# Altium schematic symbol library 陪测板.SCHLIB: 112 symbols
Pins are listed as number, name and electrical type; pins without a type are passive.

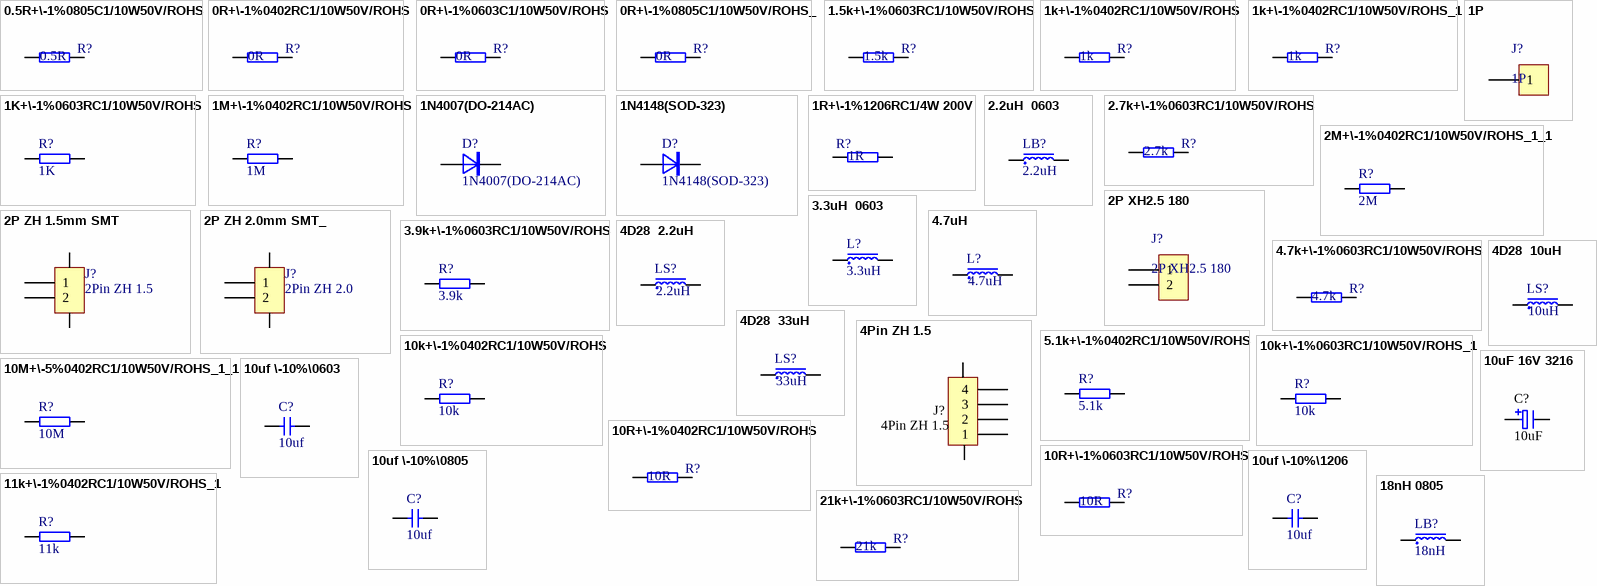
[diagram p0: symbols 0.5R+\-1%0805C1/10W50V/ROHS to 21k+\-1%0603RC1/10W50V/ROHS]

## 0.5R+\-1%0805C1/10W50V/ROHS
designator R?, comment 0.5R
0.5R+\-1%0805RC1/8W50V/ROHS; 物料编码: 38503111A; 器件名称: 贴片电阻; 器件价格: 0.0048
footprint R-0805
pins: 1, 2

## 0R+\-1%0402RC1/10W50V/ROHS
designator R?, comment 0R
0R+\-1%0402RC1/10W50V/ROHS; 物料编码: 38503111A; 器件名称: 贴片电阻; 器件价格: 0.0048
footprint R-0402
pins: 1, 2

## 0R+\-1%0603C1/10W50V/ROHS
designator R?, comment 0R
0R+\-1%0603RC1/10W50V/ROHS; 物料编码: 38503111A; 器件名称: 贴片电阻; 器件价格: 0.0048
footprint R-0603
pins: 1, 2

## 0R+\-1%0805C1/10W50V/ROHS_
designator R?, comment 0R
0R+\-1%0805RC1/8W50V/ROHS; 物料编码: 38503111A; 器件名称: 贴片电阻; 器件价格: 0.0048
footprint R-0805
pins: 1, 2

## 1.5k+\-1%0603RC1/10W50V/ROHS
designator R?, comment 1.5k
1.5k+\-1%0603RC1/10W50V/ROHS; 物料编码: 38503111A; 器件名称: 贴片电阻; 器件价格: 0.0048
footprint R-0603
pins: 1, 2

## 1k+\-1%0402RC1/10W50V/ROHS
designator R?, comment 1k
1k+\-1%0402RC1/10W50V/ROHS; 物料编码: 38503111A; 器件名称: 贴片电阻; 器件价格: 0.0048
footprint R-0402
pins: 1, 2

## 1k+\-1%0402RC1/10W50V/ROHS_1
designator R?, comment 1k
1k+\-1%0402RC1/10W50V/ROHS; 物料编码: 38503111A; 器件名称: 贴片电阻; 器件价格: 0.0048
footprint R-0402
pins: 1, 2

## 1K+\-1%0603RC1/10W50V/ROHS
designator R?, comment 1K
1K+\-1%0603RC1/10W50V/ROHS; 物料编码: 38503112A; 器件名称: 贴片电阻; 器件价格: 0.0048
footprint R-0603
pins: 1, 2

## 1M+\-1%0402RC1/10W50V/ROHS
designator R?, comment 1M
1M+\-1%0402RC1/10W50V/ROHS; 物料编码: 38503112A; 器件名称: 贴片电阻; 器件价格: 0.0048
footprint R-0402
pins: 1, 2

## 1N4007(DO-214AC)
designator D?
1N4007 DO214AC（1KV1A）  ROHS; 物料编码: 38512021A; 器件名称: 二极管; 器件价格: 0.056
footprint DO-214AC
pins: A, K

## 1N4148(SOD-323)
designator D?
1N4148 SOD-323(75V200mA）  ROHS; 物料编码: 38512004A; 器件名称: 二极管; 器件价格: 0.09
footprint SOD-323
pins: A, K

## 1P
designator J?
物料编码: 0; 器件名称: 插座; 器件价格: 0
footprint 2P-XH2.5 (Footprint not found)
pins: 1

## 1R+\-1%1206RC1/4W 200V
designator R?, comment 1R
1R+\-1%1206RC1/4W 200V  ROHS; 物料编码: 38506098A; 器件名称: 贴片电阻; 器件价格: 0
footprint R-1206
pins: 1, 2

## 2.2uH  0603
designator LB?, comment 2.2uH
2.2uH  0603
footprint L-0603
pins: 1, 2

## 2.7k+\-1%0603RC1/10W50V/ROHS
designator R?, comment 2.7k
2.7k+\-1%0603RC1/10W50V/ROHS; 物料编码: 38503111A; 器件名称: 贴片电阻; 器件价格: 0.0048
footprint R-0603
pins: 1, 2

## 2M+\-1%0402RC1/10W50V/ROHS_1_1
designator R?, comment 2M
2M+\-1%0402RC1/10W50V/ROHS; 物料编码: 38503112A; 器件名称: 贴片电阻; 器件价格: 0.0048
footprint R-0402
pins: 1, 2

## 2P XH2.5 180
designator J?
2pin XH2.5 180 JST  ROHS; 物料编码: 0; 器件名称: 插座; 器件价格: 0
footprint 2P-XH2.5 (Footprint not found)
pins: 1, 2

## 2P ZH 1.5mm SMT
designator J?, comment 2Pin ZH 1.5
2Pin ZH 1.5mm SMT JST   ROHS; 物料编码: 38505065A; 器件名称: 插座
footprint 2P-1.25-SMT
pins: 0, 0, 1, 2

## 2P ZH 2.0mm SMT_
designator J?, comment 2Pin ZH 2.0
2Pin ZH 2.0mm SMT JST   ROHS; 物料编码: 38505065A; 器件名称: 插座
footprint 2P-2.0-SMT
pins: 0, 0, 1, 2

## 3.3uH  0603
designator L?, comment 3.3uH
3.3uH  0603
footprint 4D28
pins: 1, 2

## 3.9k+\-1%0603RC1/10W50V/ROHS
designator R?, comment 3.9k
3.9k+\-1%0603RC1/10W50V/ROHS; 物料编码: 38503112A; 器件名称: 贴片电阻; 器件价格: 0.0048
footprint R-0603
pins: 1, 2

## 4.7k+\-1%0603RC1/10W50V/ROHS
designator R?, comment 4.7k
4.7k+\-1%0603RC1/10W50V/ROHS; 物料编码: 38503111A; 器件名称: 贴片电阻; 器件价格: 0.0048
footprint R-0603
pins: 1, 2

## 4.7uH
designator L?
4.7uH  SMD,6x6x4.5mm
footprint L-6*6
pins: 1, 2

## 4D28  2.2uH
designator LS?, comment 2.2uH
4D28  2.2uH
footprint 4D28
pins: 1, 2

## 4D28  10uH
designator LS?, comment 10uH
4D28  10uH
footprint 4D28
pins: 1, 2

## 4D28  33uH
designator LS?, comment 33uH
4D28  33uH
footprint 4D28
pins: 1, 2

## 4Pin ZH 1.5
designator J?
4Pin ZH 1.5mm SMT JST ROHS; 物料编码: 38505066A; 器件名称: 插座
footprint 4P-1.25-SMT
pins: 0, 0, 1, 2, 3, 4

## 5.1k+\-1%0402RC1/10W50V/ROHS
designator R?, comment 5.1k
5.1k+\-1%0402RC1/10W50V/ROHS; 物料编码: 38503112A; 器件名称: 贴片电阻; 器件价格: 0.0048
footprint R-0402
pins: 1, 2

## 10k+\-1%0402RC1/10W50V/ROHS
designator R?, comment 10k
10k+\-1%0402RC1/10W50V/ROHS; 物料编码: 38503112A; 器件名称: 贴片电阻; 器件价格: 0.0048
footprint R-0402
pins: 1, 2

## 10k+\-1%0603RC1/10W50V/ROHS_1
designator R?, comment 10k
10k+\-1%0603RC1/10W50V/ROHS; 物料编码: 38503112A; 器件名称: 贴片电阻; 器件价格: 0.0048
footprint R-0603
pins: 1, 2

## 10M+\-5%0402RC1/10W50V/ROHS_1_1
designator R?, comment 10M
10M+\-5%0402RC1/10W50V/ROHS; 物料编码: 38503112A; 器件名称: 贴片电阻; 器件价格: 0.0048
footprint R-0402
pins: 1, 2

## 10R+\-1%0402RC1/10W50V/ROHS
designator R?, comment 10R
10R+\-1%0402RC1/10W50V/ROHS; 物料编码: 38503111A; 器件名称: 贴片电阻; 器件价格: 0.0048
footprint R-0402
pins: 1, 2

## 10R+\-1%0603RC1/10W50V/ROHS
designator R?, comment 10R
10R+\-1%0603RC1/10W50V/ROHS; 物料编码: 38503111A; 器件名称: 贴片电阻; 器件价格: 0.0048
footprint R-0805
pins: 1, 2

## 10uF 16V 3216
designator C?, comment 10uF
10uF+\-10%3216TA16V   ROHS; 物料编码: 38510181A; 器件名称: 钽电容; 器件价格: 0.55
footprint C-3528(B)
pins: 1, 2

## 10uf \-10%\0603
designator C?, comment 10uf
10uf +\-10%\0603; 物料编码: 38510206A; 器件名称: 贴片电容; 器件价格: 0.055
footprint C-0603
pins: 1, 2

## 10uf \-10%\0805
designator C?, comment 10uf
10uf +\-10%\0805; 物料编码: 38510206A; 器件名称: 贴片电容; 器件价格: 0.055
footprint C-0805
pins: 1, 2

## 10uf \-10%\1206
designator C?, comment 10uf
10uf +\-10%\1206; 物料编码: 38510206A; 器件名称: 贴片电容; 器件价格: 0.055
footprint C-1206
pins: 1, 2

## 11k+\-1%0402RC1/10W50V/ROHS_1
designator R?, comment 11k
11k+\-1%0402RC1/10W50V/ROHS; 物料编码: 38503112A; 器件名称: 贴片电阻; 器件价格: 0.0048
footprint R-0402
pins: 1, 2

## 18nH 0805
designator LB?, comment 18nH
18nH 0805
footprint L-0805
pins: 1, 2

## 21k+\-1%0603RC1/10W50V/ROHS
designator R?, comment 21k
21k+\-1%0603RC1/10W50V/ROHS; 物料编码: 38503111A; 器件名称: 贴片电阻; 器件价格: 0.0048
footprint R-0603
pins: 1, 2

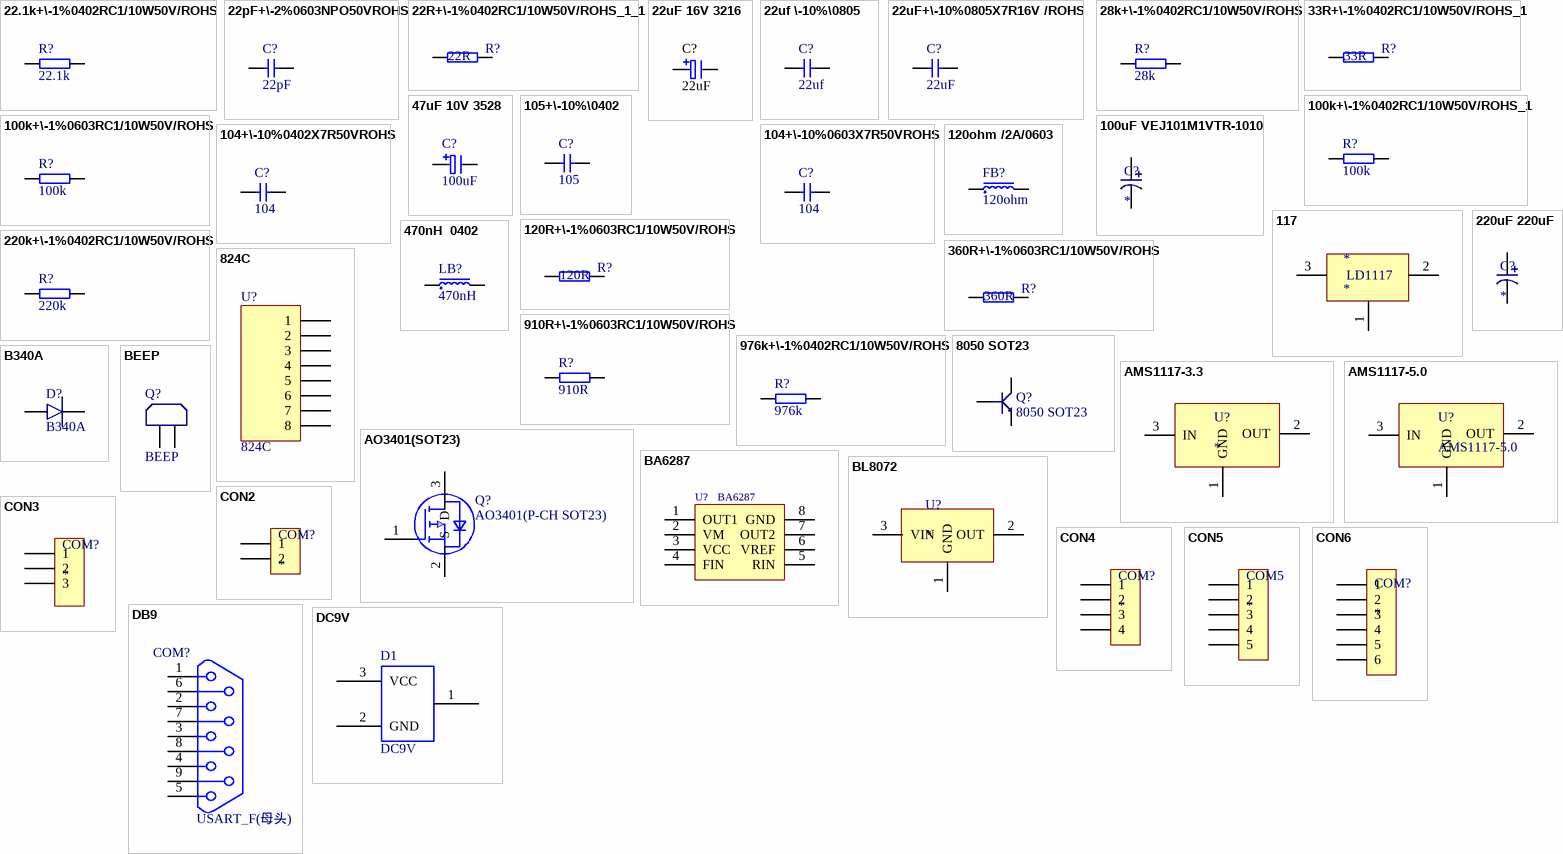
[diagram p1: symbols 22.1k+\-1%0402RC1/10W50V/ROHS to DC9V]

## 22.1k+\-1%0402RC1/10W50V/ROHS
designator R?, comment 22.1k
22.1k+\-1%0402RC1/10W50V/ROHS; 物料编码: 38503112A; 器件名称: 贴片电阻; 器件价格: 0.0048
footprint R-0402
pins: 1, 2

## 22pF+\-2%0603NPO50VROHS
designator C?, comment 22pF
22pF+\-2%0603NPO50VROHS; 物料编码: 38510206A; 器件名称: 贴片电容; 器件价格: 0.055
footprint C-0603
pins: 1, 2

## 22R+\-1%0402RC1/10W50V/ROHS_1_1
designator R?, comment 22R
22R+\-1%0402RC1/10W50V/ROHS; 物料编码: 38503111A; 器件名称: 贴片电阻; 器件价格: 0.0048
footprint R-0402
pins: 1, 2

## 22uF 16V 3216
designator C?, comment 22uF
22uF+\-10%3216TA16V   ROHS; 物料编码: 38510181A; 器件名称: 钽电容; 器件价格: 0.55
footprint C-3528(B)
pins: 1, 2

## 22uf \-10%\0805
designator C?, comment 22uf
22uf +\-10%\0805; 物料编码: 38510206A; 器件名称: 贴片电容; 器件价格: 0.055
footprint C-0805
pins: 1, 2

## 22uF+\-10%0805X7R16V /ROHS
designator C?, comment 22uF
22uF+\-10%0805X7R16V /ROHS; 物料编码: 38510229A; 器件名称: 贴片电容; 器件价格: 0.57
footprint C-0805
pins: 1, 2

## 28k+\-1%0402RC1/10W50V/ROHS
designator R?, comment 28k
28k+\-1%0402RC1/10W50V/ROHS; 物料编码: 38503112A; 器件名称: 贴片电阻; 器件价格: 0.0048
footprint R-0402
pins: 1, 2

## 33R+\-1%0402RC1/10W50V/ROHS_1
designator R?, comment 33R
33R+\-1%0402RC1/10W50V/ROHS; 物料编码: 38503111A; 器件名称: 贴片电阻; 器件价格: 0.0048
footprint R-0402
pins: 1, 2

## 47uF 10V 3528
designator C?, comment 100uF
47uF+\-10%3528TA10V  ROHS; 物料编码: 38510133A; 器件名称: 钽电容; 器件价格: 0.9
footprint C-3528(B) (Footprint not found)
pins: 1, 2

## 100k+\-1%0402RC1/10W50V/ROHS_1
designator R?, comment 100k
100k+\-1%0402RC1/10W50V/ROHS; 物料编码: 38503112A; 器件名称: 贴片电阻; 器件价格: 0.0048
footprint R-0402
pins: 1, 2

## 100k+\-1%0603RC1/10W50V/ROHS
designator R?, comment 100k
100k+\-1%0603RC1/10W50V/ROHS; 物料编码: 38503112A; 器件名称: 贴片电阻; 器件价格: 0.0048
footprint R-0603
pins: 1, 2

## 100uF VEJ101M1VTR-1010
designator C?
100uF VEJ101M1VTR-1010
footprint SMD 10*10
pins: 1, 2

## 104+\-10%0402X7R50VROHS
designator C?, comment 104
104+\-10%0402X7R50VROHS; 物料编码: 38510131A; 器件名称: 贴片电容; 器件价格: 0.055
footprint C-0402
pins: 1, 2

## 104+\-10%0603X7R50VROHS
designator C?, comment 104
104+\-10%0603X7R50VROHS; 物料编码: 38510131A; 器件名称: 贴片电容; 器件价格: 0.055
footprint C-0603
pins: 1, 2

## 105+\-10%\0402
designator C?, comment 105
105+\-10%\0402; 物料编码: 38510206A; 器件名称: 贴片电容; 器件价格: 0.055
footprint C-0603
pins: 1, 2

## 117
designator *
pins: 1, 2, 3
text: LD1117

## 120ohm /2A/0603
designator FB?, comment 120ohm
120ohm /2A/0603
footprint L-0603
pins: 1, 2

## 120R+\-1%0603RC1/10W50V/ROHS
designator R?, comment 120R
120R+\-1%0603RC1/10W50V/ROHS; 物料编码: 38503111A; 器件名称: 贴片电阻; 器件价格: 0.0048
footprint R-0603
pins: 1, 2

## 220k+\-1%0402RC1/10W50V/ROHS
designator R?, comment 220k
220k+\-1%0402RC1/10W50V/ROHS; 物料编码: 38503112A; 器件名称: 贴片电阻; 器件价格: 0.0048
footprint R-0402
pins: 1, 2

## 220uF 220uF
designator C?
220 uFVEJ101M1VTR-1010
footprint SMD 10*10
pins: 1, 2

## 360R+\-1%0603RC1/10W50V/ROHS
designator R?, comment 360R
360R+\-1%0603RC1/10W50V/ROHS; 物料编码: 38503111A; 器件名称: 贴片电阻; 器件价格: 0.0048
footprint R-0603
pins: 1, 2

## 470nH  0402
designator LB?, comment 470nH
470nH \0402\10%
footprint L-0805
pins: 1, 2

## 824C
designator U?
footprint 8P-2.0-SMT
pins: 1, 2, 3, 4, 5, 6, 7, 8

## 910R+\-1%0603RC1/10W50V/ROHS
designator R?, comment 910R
910R+\-1%0603RC1/10W50V/ROHS; 物料编码: 38503112A; 器件名称: 贴片电阻; 器件价格: 0.0048
footprint R-0603
pins: 1, 2

## 976k+\-1%0402RC1/10W50V/ROHS
designator R?, comment 976k
976k+\-1%0402RC1/10W50V/ROHS; 物料编码: 38503112A; 器件名称: 贴片电阻; 器件价格: 0.0048
footprint R-0402
pins: 1, 2

## 8050 SOT23
designator Q?
footprint SOT23
pins: B, C, E

## AMS1117-3.3
designator U?
pins: 1 GND, 2 OUT, 3 IN

## AMS1117-5.0
designator U?
AMS1117-5.0 UMW(友台半导体)
footprint SOT-223
pins: 1 GND, 2 OUT, 3 IN

## AO3401(SOT23)
designator Q?, comment AO3401(P-CH SOT23)
AO3401-SOT23(P-CH30V4.2A1.4W)   ROHS; 物料编码: 38514203A; 器件名称: MOS管; 器件价格: 0.44
footprint SOT23
pins: 1 G, 2 S, 3 D

## B340A
designator D?
footprint DO-214AC
pins: A, K

## BA6287
designator U?
BA6287-SOP8
footprint SOP8(5.28x5.28 P1.27) (5.28x5.28 P1.27 (W25Q16))
footprint SOP8(3.9x4.9 P1.27)
pins: 1 OUT1, 2 VM, 3 VCC, 4 FIN, 5 RIN, 6 VREF, 7 OUT2, 8 GND
2 alternate drawings of the same symbol

## BEEP
designator Q?
footprint BZ-D9.6x5P4.0
pins: 1, 2

## BL8072
designator U?
footprint LC-TO-252
pins: 1 GND, 2 OUT, 3 VIN

## CON2
designator COM?
2pin 3.81mm
footprint CON2-1 3.81mm
pins: 1, 2

## CON3
designator COM?
3pin
pins: 1, 2, 3

## CON4
designator COM?
4pin
pins: 1, 2, 3, 4

## CON5
designator COM5
5pin
footprint CON5  BEND 3.81mm - duplicate
pins: 1, 2, 3, 4, 5

## CON6
designator COM?
6pin 3.81mm
footprint CON6-1 3.81mm
pins: 1, 2, 3, 4, 5, 6

## DB9
designator COM?, comment USART_F(母头)
footprint DB9
pins: 1, 2, 3, 4, 5, 6, 7, 8, 9
2 alternate drawings of the same symbol

## DC9V
designator D1
DC005直流电源插座5.5x2.1
footprint DC-1
pins: 1, 2 GND, 3 VCC

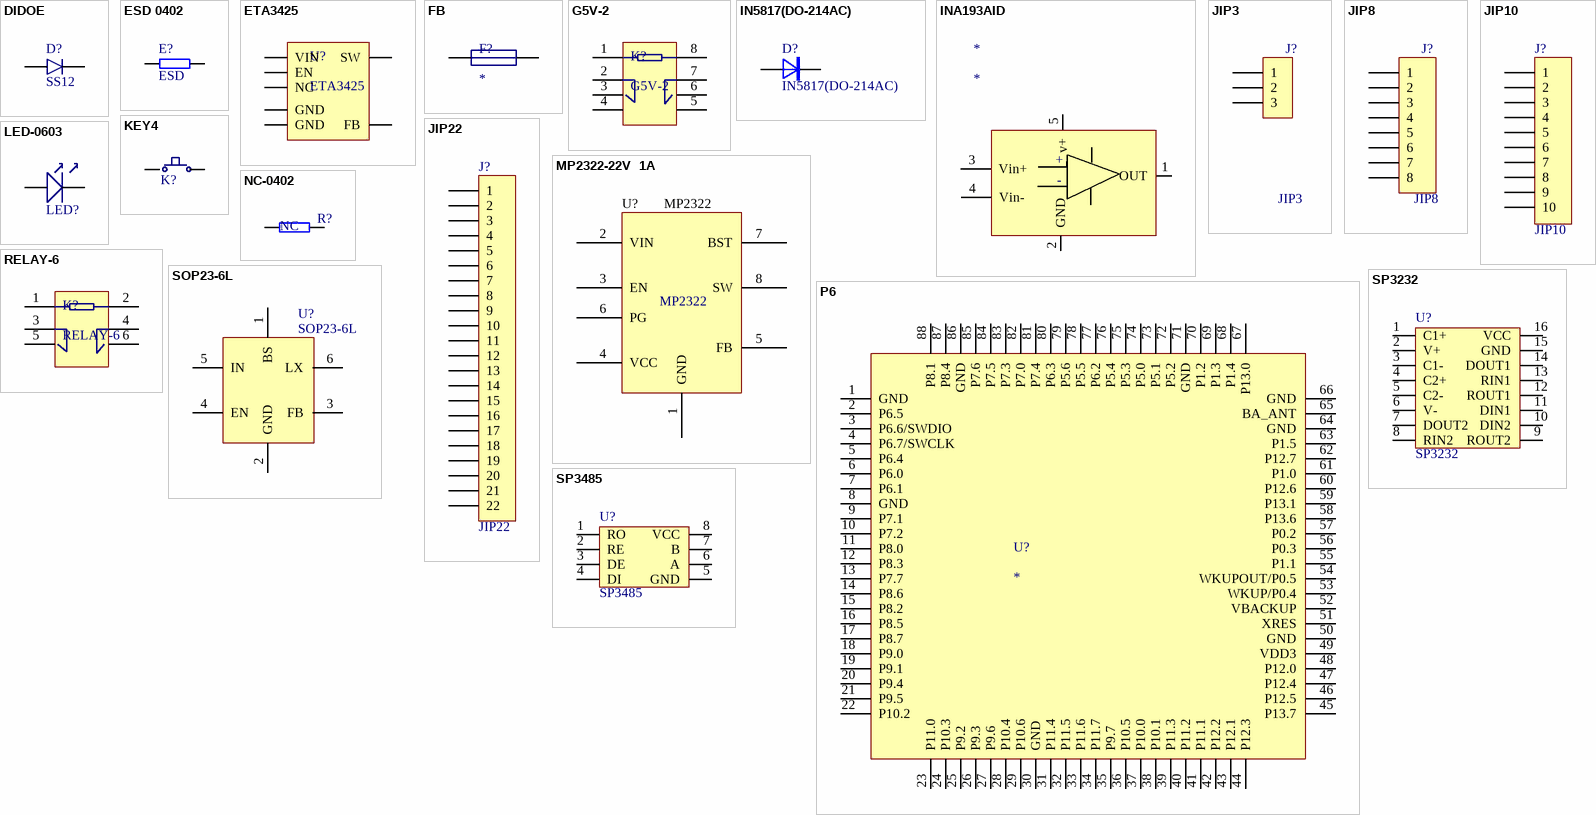
[diagram p2: symbols DIDOE to SP3485]

## DIDOE
designator D?, comment SS12
footprint DO-214AC
pins: A, K

## ESD 0402
designator E?, comment ESD
ESD 0402; 物料编码: 38503137A; 器件名称: 贴片电阻; 器件价格: 0.0048
footprint R-0402
pins: 1, 2

## ETA3425
designator U?
pins: 1 SW, 2 NC, 3 FB, 4 EN, 5 VIN, 6 GND, 7 GND

## FB
designator F?
pins: 1, 2

## G5V-2
designator K?
G5V-2-5V
footprint G5V_12V-2A
pins: 1, 2, 3, 4, 5, 6, 7, 8

## IN5817(DO-214AC)
designator D?
IN5817 DO214AC（20V1A）  ROHS; 物料编码: 38512049A; 器件名称: 二极管; 器件价格: 0.11
footprint DO-214AC
pins: A, K

## INA193AID
designator *
footprint SOT23-5
pins: 1 OUT, 2 GND (power), 3 Vin+, 4 Vin-, 5 v+ (power)
1 alternate drawing of the same symbol
text: +; -

## JIP3
designator J?
pins: 1, 2, 3

## JIP8
designator J?
footprint 8P-SOP-2.0-180
pins: 1, 2, 3, 4, 5, 6, 7, 8

## JIP10
designator J?
footprint 10P-PHD-2.0-180
pins: 1, 2, 3, 4, 5, 6, 7, 8, 9, 10

## JIP22
designator J?
footprint 22P-PHD-2.0-180
pins: 1, 2, 3, 4, 5, 6, 7, 8, 9, 10, 11, 12, 13, 14, 15, 16, 17, 18, 19, 20, 21, 22

## KEY4
designator K?  (value not drawn)
footprint SW-SMD(4.5x4.5x3.8) (轻触开关)
pins: 1, 2

## LED-0603
designator LED?  (value not drawn)
footprint LED-0603
pins: 1, 2

## MP2322-22V  1A
designator U?, comment MP2322
footprint QFN-8 (QFN-8 (1.5x2mm))
pins: 1 GND, 2 VIN, 3 EN, 4 VCC, 5 FB, 6 PG, 7 BST, 8 SW

## NC-0402
designator R?, comment NC
NC-0402; 物料编码: 38503111A; 器件名称: 贴片电阻; 器件价格: 0.0048
footprint R-0402
pins: 1, 2

## P6
designator U?
footprint P6-1
pins: 1 GND, 2 P6.5, 3 P6.6/SWDIO, 4 P6.7/SWCLK, 5 P6.4, 6 P6.0, 7 P6.1, 8 GND, 9 P7.1, 10 P7.2, 11 P8.0, 12 P8.3, 13 P7.7, 14 P8.6, 15 P8.2, 16 P8.5, 17 P8.7, 18 P9.0, 19 P9.1, 20 P9.4, 21 P9.5, 22 P10.2, 23 P11.0, 24 P10.3, 25 P9.2, 26 P9.3, 27 P9.6, 28 P10.4, 29 P10.6, 30 GND, 31 P11.4, 32 P11.5, 33 P11.6, 34 P11.7, 35 P9.7, 36 P10.5, 37 P10.0, 38 P10.1, 39 P11.3, 40 P11.2, 41 P11.1, 42 P12.2, 43 P12.1, 44 P12.3, 45 P13.7, 46 P12.5, 47 P12.4, 48 P12.0, 49 VDD3, 50 GND, 51 XRES, 52 VBACKUP, 53 WKUP/P0.4, 54 WKUPOUT/P0.5, 55 P1.1, 56 P0.3, 57 P0.2, 58 P13.6, 59 P13.1, 60 P12.6, 61 P1.0, 62 P12.7, 63 P1.5, 64 GND, 65 BA_ANT, 66 GND, 67 P13.0, 68 P1.4, 69 P1.3, 70 P1.2, 71 GND, 72 P5.2, 73 P5.1, 74 P5.0, 75 P5.3, 76 P5.4, 77 P6.2, 78 P5.5, 79 P5.6, 80 P6.3, 81 P7.4, 82 P7.0, 83 P7.3, 84 P7.5, 85 P7.6, 86 GND, 87 P8.4, 88 P8.1

## RELAY-6
designator K?
footprint JD-1A125VAC$2F$2A35VDC
pins: 1, 2, 3, 4, 5, 6

## SOP23-6L
designator U?
footprint SOP23-6L
pins: 1 BS, 2 GND, 3 FB, 4 EN, 5 IN, 6 LX

## SP3232
designator U?
footprint SOP16M
pins: 1 C1+, 2 V+, 3 C1-, 4 C2+, 5 C2-, 6 V-, 7 DOUT2, 8 RIN2, 9 ROUT2, 10 DIN2, 11 DIN1, 12 ROUT1, 13 RIN1, 14 DOUT1, 15 GND, 16 VCC

## SP3485
designator U?
TP485E-SR
footprint SOP-8 (SOP)
pins: 1 RO, 2 RE, 3 DE, 4 DI, 5 GND, 6 A, 7 B, 8 VCC

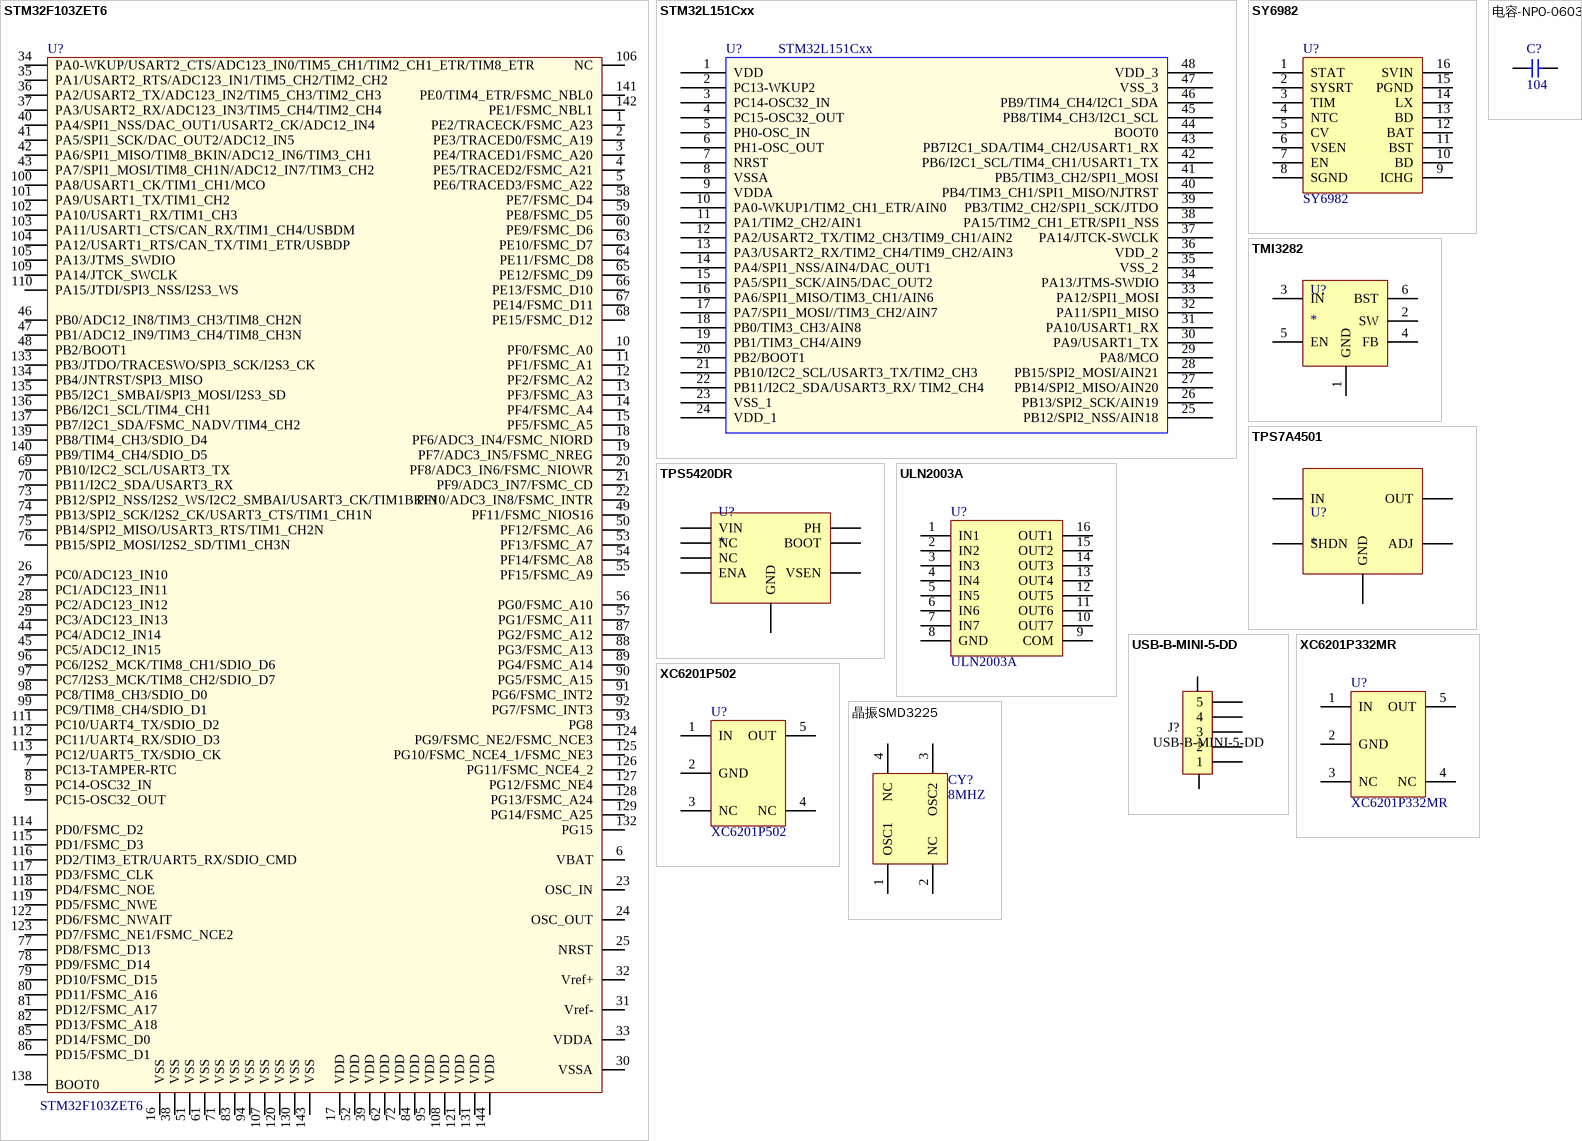
[diagram p3: symbols STM32F103ZET6 to 电容-NPO-0603]

## STM32F103ZET6
designator U?
footprint LQFP144
pins: 1 PE2/TRACECK/FSMC_A23, 2 PE3/TRACED0/FSMC_A19, 3 PE4/TRACED1/FSMC_A20, 4 PE5/TRACED2/FSMC_A21, 5 PE6/TRACED3/FSMC_A22, 6 VBAT, 7 PC13-TAMPER-RTC, 8 PC14-OSC32_IN, 9 PC15-OSC32_OUT, 10 PF0/FSMC_A0, 11 PF1/FSMC_A1, 12 PF2/FSMC_A2, 13 PF3/FSMC_A3, 14 PF4/FSMC_A4, 15 PF5/FSMC_A5, 16 VSS, 17 VDD, 18 PF6/ADC3_IN4/FSMC_NIORD, 19 PF7/ADC3_IN5/FSMC_NREG, 20 PF8/ADC3_IN6/FSMC_NIOWR, 21 PF9/ADC3_IN7/FSMC_CD, 22 PF10/ADC3_IN8/FSMC_INTR, 23 OSC_IN, 24 OSC_OUT, 25 NRST, 26 PC0/ADC123_IN10, 27 PC1/ADC123_IN11, 28 PC2/ADC123_IN12, 29 PC3/ADC123_IN13, 30 VSSA, 31 Vref-, 32 Vref+, 33 VDDA, 34 PA0-WKUP/USART2_CTS/ADC123_IN0/TIM5_CH1/TIM2_CH1_ETR/TIM8_ETR, 35 PA1/USART2_RTS/ADC123_IN1/TIM5_CH2/TIM2_CH2, 36 PA2/USART2_TX/ADC123_IN2/TIM5_CH3/TIM2_CH3, 37 PA3/USART2_RX/ADC123_IN3/TIM5_CH4/TIM2_CH4, 38 VSS, 39 VDD, 40 PA4/SPI1_NSS/DAC_OUT1/USART2_CK/ADC12_IN4, 41 PA5/SPI1_SCK/DAC_OUT2/ADC12_IN5, 42 PA6/SPI1_MISO/TIM8_BKIN/ADC12_IN6/TIM3_CH1, 43 PA7/SPI1_MOSI/TIM8_CH1N/ADC12_IN7/TIM3_CH2, 44 PC4/ADC12_IN14, 45 PC5/ADC12_IN15, 46 PB0/ADC12_IN8/TIM3_CH3/TIM8_CH2N, 47 PB1/ADC12_IN9/TIM3_CH4/TIM8_CH3N, 48 PB2/BOOT1, 49 PF11/FSMC_NIOS16, 50 PF12/FSMC_A6, 51 VSS, 52 VDD, 53 PF13/FSMC_A7, 54 PF14/FSMC_A8, 55 PF15/FSMC_A9, 56 PG0/FSMC_A10, 57 PG1/FSMC_A11, 58 PE7/FSMC_D4, 59 PE8/FSMC_D5, 60 PE9/FSMC_D6, 61 VSS, 62 VDD, 63 PE10/FSMC_D7, 64 PE11/FSMC_D8, 65 PE12/FSMC_D9, 66 PE13/FSMC_D10, 67 PE14/FSMC_D11, 68 PE15/FSMC_D12, 69 PB10/I2C2_SCL/USART3_TX, 70 PB11/I2C2_SDA/USART3_RX, 71 VSS, 72 VDD, 73 PB12/SPI2_NSS/I2S2_WS/I2C2_SMBAI/USART3_CK/TIM1BKIN, 74 PB13/SPI2_SCK/I2S2_CK/USART3_CTS/TIM1_CH1N, 75 PB14/SPI2_MISO/USART3_RTS/TIM1_CH2N, 76 PB15/SPI2_MOSI/I2S2_SD/TIM1_CH3N, 77 PD8/FSMC_D13, 78 PD9/FSMC_D14, 79 PD10/FSMC_D15, 80 PD11/FSMC_A16, 81 PD12/FSMC_A17, 82 PD13/FSMC_A18, 83 VSS, 84 VDD, 85 PD14/FSMC_D0, 86 PD15/FSMC_D1, 87 PG2/FSMC_A12, 88 PG3/FSMC_A13, 89 PG4/FSMC_A14, 90 PG5/FSMC_A15, 91 PG6/FSMC_INT2, 92 PG7/FSMC_INT3, 93 PG8, 94 VSS, 95 VDD, 96 PC6/I2S2_MCK/TIM8_CH1/SDIO_D6, 97 PC7/I2S3_MCK/TIM8_CH2/SDIO_D7, 98 PC8/TIM8_CH3/SDIO_D0, 99 PC9/TIM8_CH4/SDIO_D1, 100 PA8/USART1_CK/TIM1_CH1/MCO, 101 PA9/USART1_TX/TIM1_CH2, 102 PA10/USART1_RX/TIM1_CH3, 103 PA11/USART1_CTS/CAN_RX/TIM1_CH4/USBDM, 104 PA12/USART1_RTS/CAN_TX/TIM1_ETR/USBDP, 105 PA13/JTMS_SWDIO, 106 NC, 107 VSS, 108 VDD, 109 PA14/JTCK_SWCLK, 110 PA15/JTDI/SPI3_NSS/I2S3_WS, 111 PC10/UART4_TX/SDIO_D2, 112 PC11/UART4_RX/SDIO_D3, 113 PC12/UART5_TX/SDIO_CK, 114 PD0/FSMC_D2, 115 PD1/FSMC_D3, 116 PD2/TIM3_ETR/UART5_RX/SDIO_CMD, 117 PD3/FSMC_CLK, 118 PD4/FSMC_NOE, 119 PD5/FSMC_NWE, 120 VSS, 121 VDD, 122 PD6/FSMC_NWAIT, 123 PD7/FSMC_NE1/FSMC_NCE2, 124 PG9/FSMC_NE2/FSMC_NCE3, 125 PG10/FSMC_NCE4_1/FSMC_NE3, 126 PG11/FSMC_NCE4_2, 127 PG12/FSMC_NE4, 128 PG13/FSMC_A24, 129 PG14/FSMC_A25, 130 VSS, 131 VDD, 132 PG15, 133 PB3/JTDO/TRACESWO/SPI3_SCK/I2S3_CK, 134 PB4/JNTRST/SPI3_MISO, 135 PB5/I2C1_SMBAI/SPI3_MOSI/I2S3_SD, 136 PB6/I2C1_SCL/TIM4_CH1, 137 PB7/I2C1_SDA/FSMC_NADV/TIM4_CH2, 138 BOOT0, 139 PB8/TIM4_CH3/SDIO_D4, 140 PB9/TIM4_CH4/SDIO_D5, 141 PE0/TIM4_ETR/FSMC_NBL0, 142 PE1/FSMC_NBL1, 143 VSS, 144 VDD

## STM32L151Cxx
designator U?
STM32L151Cxx QFP48(7x7 P0.5); 器件名称: 单片机; 器件价格: 4.3
footprint QFP48(7x7 P0.5) (Thin QFP, 48-Leads, Body 7x7mm, Pitch 0.5mm, IPC High Density)
pins: 1 VDD, 2 PC13-WKUP2, 3 PC14-OSC32_IN, 4 PC15-OSC32_OUT, 5 PH0-OSC_IN, 6 PH1-OSC_OUT, 7 NRST, 8 VSSA, 9 VDDA, 10 PA0-WKUP1/TIM2_CH1_ETR/AIN0, 11 PA1/TIM2_CH2/AIN1, 12 PA2/USART2_TX/TIM2_CH3/TIM9_CH1/AIN2, 13 PA3/USART2_RX/TIM2_CH4/TIM9_CH2/AIN3, 14 PA4/SPI1_NSS/AIN4/DAC_OUT1, 15 PA5/SPI1_SCK/AIN5/DAC_OUT2, 16 PA6/SPI1_MISO/TIM3_CH1/AIN6, 17 PA7/SPI1_MOSI//TIM3_CH2/AIN7, 18 PB0/TIM3_CH3/AIN8, 19 PB1/TIM3_CH4/AIN9, 20 PB2/BOOT1, 21 PB10/I2C2_SCL/USART3_TX/TIM2_CH3, 22 PB11/I2C2_SDA/USART3_RX/ TIM2_CH4, 23 VSS_1, 24 VDD_1, 25 PB12/SPI2_NSS/AIN18, 26 PB13/SPI2_SCK/AIN19, 27 PB14/SPI2_MISO/AIN20, 28 PB15/SPI2_MOSI/AIN21, 29 PA8/MCO, 30 PA9/USART1_TX, 31 PA10/USART1_RX, 32 PA11/SPI1_MISO, 33 PA12/SPI1_MOSI, 34 PA13/JTMS-SWDIO, 35 VSS_2, 36 VDD_2, 37 PA14/JTCK-SWCLK, 38 PA15/TIM2_CH1_ETR/SPI1_NSS, 39 PB3/TIM2_CH2/SPI1_SCK/JTDO, 40 PB4/TIM3_CH1/SPI1_MISO/NJTRST, 41 PB5/TIM3_CH2/SPI1_MOSI, 42 PB6/I2C1_SCL/TIM4_CH1/USART1_TX, 43 PB7I2C1_SDA/TIM4_CH2/USART1_RX, 44 BOOT0, 45 PB8/TIM4_CH3/I2C1_SCL, 46 PB9/TIM4_CH4/I2C1_SDA, 47 VSS_3, 48 VDD_3

## SY6982
designator U?
footprint QFN3x3-16
pins: 1 STAT, 2 SYSRT, 3 TIM, 4 NTC, 5 CV, 6 VSEN, 7 EN, 8 SGND, 9 ICHG, 10 BD, 11 BST, 12 BAT, 13 BD, 14 LX, 15 PGND, 16 SVIN

## TMI3282
designator U?
footprint SOP23-6
pins: 1 GND, 2 SW, 3 IN, 4 FB, 5 EN, 6 BST

## TPS7A4501
designator U?
pins: 1 SHDN, 2 IN, 3 GND, 4 OUT, 5 ADJ

## TPS5420DR
designator U?
footprint LC-SOIC-8_150mil
pins: 1 BOOT, 2 NC, 3 NC, 4 VSEN, 5 ENA, 6 GND, 7 VIN, 8 PH

## ULN2003A
designator U?
footprint SO-16
pins: 1 IN1, 2 IN2, 3 IN3, 4 IN4, 5 IN5, 6 IN6, 7 IN7, 8 GND, 9 COM, 10 OUT7, 11 OUT6, 12 OUT5, 13 OUT4, 14 OUT3, 15 OUT2, 16 OUT1

## USB-B-MINI-5-DD
designator J?
物料编码: 38505066A; 器件名称: 插座
footprint USB-B-MINI-5-DD
pins: 0, 0, 1, 2, 3, 4, 5

## XC6201P332MR
designator U?
XC6201P332MR SOT23-5 10V 150mA   ROHS; 器件名称: 三端稳压芯片; 器件价格: 0.72
footprint SOT23-5
pins: 1 IN, 2 GND, 3 NC, 4 NC, 5 OUT

## XC6201P502
designator U?
XC6201P502 SOT23-5; 器件名称: 三端稳压芯片; 器件价格: 0.72
footprint SOT23-5
pins: 1 IN, 2 GND, 3 NC, 4 NC, 5 OUT

## 晶振SMD3225
designator CY?, comment 8MHZ
晶振SMD3225 T=-40+70℃
footprint XTAL-4025
pins: 1 OSC1, 2 NC, 3 OSC2, 4 NC

## 电容-NPO-0603
designator C?, comment 104
0603/NPO
footprint C-0402
pins: 1, 2